# EAGLE library part MICROPITCH (library connectors)
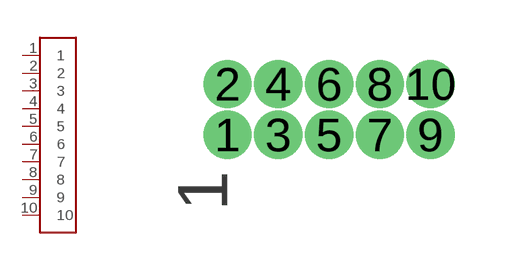
[diagram p1: symbol with the pads of 2X5-1.27MM; footprint 2X5-1.27MM]

Designator prefix -

## MICROPITCH  [2X5-1.27MM]
1  1
2  2
3  3
4  4
5  5
6  6
7  7
8  8
9  9
10  10

## Footprint 2X5-1.27MM (pad centres in mm)
drill 0.7 pad 1.016: 1 0,0; 2 0,1.27; 3 1.27,0; 4 1.27,1.27; 5 2.54,0; 6 2.54,1.27; 7 3.81,0; 8 3.81,1.27; 9 5.08,0; 10 5.08,1.27